# Altium footprint library Protectors.PcbLib: 2 footprints
Each footprint in its own frame and in the unit in brackets; x right, y up, seen from the top. Pads: shape width x height; smd on the part's side, far side on the other; paste and mask are expansions set on the pad; w line width, h text height; cw(c..) or ccw(c..) is an arc to the next point about the centre after c.
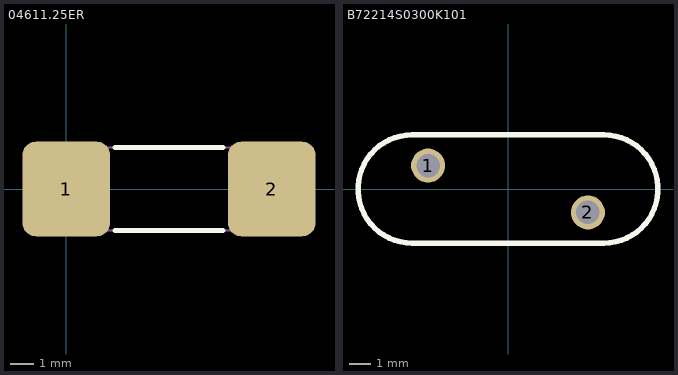
[diagram p0: the footprints below, top view; thin cyan lines are the x and y axes]

## 04611.25ER [mm]
pads (2):
  rrect30% 3.8x4.1 smd: 1(0,0) 2(8.9,0)
Top Overlay:
  lines w0.2: 2.1,-1.8 6.8,-1.8 ; 2.1,1.8 6.8,1.8
Mechanical 1:
  lines w0.1: -1.2,-1.8 -1.2,1.8 9.8,1.8 9.8,-1.8 -1.2,-1.8
3D body "User Library-36CFA.STEP": height 3.6, standoff 0, extent -1.2,-1.8 9.8,1.8

## B72214S0300K101 [mm]
pads (2):
  round 1.6 hole 1.1: 1(-3.75,1.1) 2(3.75,-1.1)
Top Overlay:
  lines w0.254: -4.5,-2.54 cw(c-4.5,0) -4.5,2.54 4.5,2.54 cw(c4.5,0) 4.5,-2.54 -4.5,-2.54